# Altium schematic symbol library Inductor.SchLib: 14 symbols
Pins are listed as number, name and electrical type; pins without a type are passive.

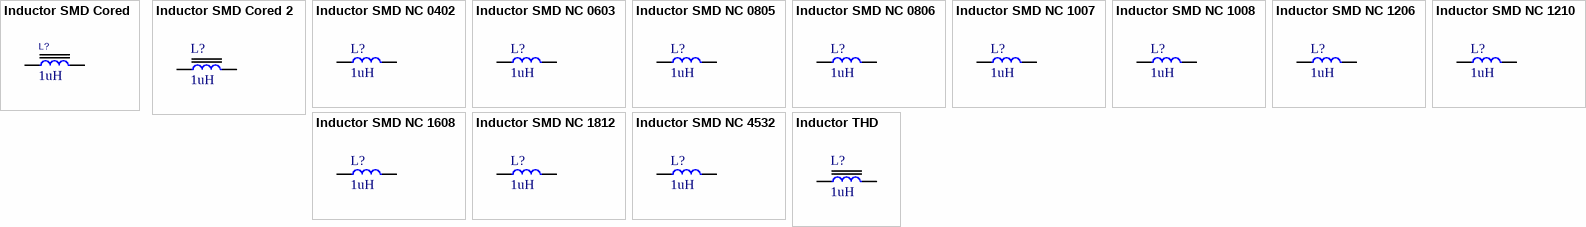
[diagram p0: symbols Inductor SMD Cored to Inductor THD]

## Inductor SMD Cored
designator L?  value 1uH
Inductor SMD Cored; DatasheetVersion: 2022
footprint CD32 indctor
footprint LM57 (5*5 to 7*7)
footprint LM810 (8*8 to 10*10)
footprint L3 (3.0*3.2mm)
footprint L4 (3.8*3.8mm, 3.7*3.5mm)
footprint L4-H2 (4.1*4.1*2.1mm)
footprint L5 (5.0*5.0mm)
footprint L5-H2 (5.0*5.0*2mm)
footprint L6 (6.0*6.0mm)
footprint L7 (7.2*6.9mm, 7.1*6.5mm)
footprint L7-5 (6.6*4.4*3mm)
footprint L7-6 (7.5*6.5*3mm)
footprint L8 (7.5*7.5mm, 8*8)
footprint L9-8 (9*7.7*1.6mm)
footprint L10 (10.5*11.5mm)
footprint L11-7 (7.5*10.8*7.2mm)
footprint L12 (13.5*12.5mm)
footprint L13-10 (13*9.5mm, 12.7*10mm)
footprint L18-15 (18.5*15.24mm)
footprint LCDRH2 (3.2*3.2*2.0mm)
footprint LCDRH5 (6*6*2mm)
footprint self 6.8uh 0.5A
pins: 1, 2

## Inductor SMD Cored 2
designator L?  value 1uH
Inductor SMD Cored 2; DatasheetVersion: 2022
footprint LXAL1010 (10.50*11.3*10mm)
footprint LXAL1030 (10.50*11.3*3.1mm)
footprint LXAL1060 (10.50*11.3*6.0mm)
footprint LXAL1350 (13*14*5mm)
footprint LXAL1510 (15.2*16.2*11mm)
footprint LXAL1513 (15.2*16.2*13mm)
footprint LXAL1580 (15.2*16.2*8.2mm)
footprint LXAL4014 (4.0*4.0*1.4mm)
footprint LXAL4020 (4.0*4.0*2.1mm)
footprint LXAL4030 (4.0*4.0*3.1mm)
footprint LXAL4040 (4.0*4.0*4.1mm)
footprint LXAL5020 (5.3*5.5*2.0mm)
footprint LXAL5030 (5.3*5.5*3.1mm)
footprint LXAL5050 (5.3*5.5*5.1mm)
footprint LXAL6020 (6.36*6.56*2.1mm)
footprint LXAL6030 (6.36*6.56*3.1mm)
footprint LXAL6060 (6.36*6.56*6.1mm)
footprint LXAL7020 (7.5*7.5*2.1mm)
footprint LXAL7030 (7.5*7.5*3.1mm)
footprint LXAL7070 (7.5x7.5x7.0mm)
footprint LXAL8080 (8.1x8.6x8mm)
pins: 1, 2

## Inductor SMD NC 0402
designator L?  value 1uH
Inductor SMD NC 0402; DatasheetVersion: 2022
footprint L0402 (0402, 1.0*0.5mm)
footprint L0402E (0402, 1.0*0.5mm)
pins: 1, 2

## Inductor SMD NC 0603
designator L?  value 1uH
Inductor SMD NC 0603; DatasheetVersion: 2022
footprint L0603 (0603, 1.6*0.8mm)
footprint L0603E (0603, 1.6*0.8mm)
pins: 1, 2

## Inductor SMD NC 0805
designator L?  value 1uH
Inductor SMD NC 0805; DatasheetVersion: 2022
footprint L0805 (0805, 2.0*1.3mm)
footprint L0805E (0805)
pins: 1, 2

## Inductor SMD NC 0806
designator L?  value 1uH
Inductor SMD NC 0806; DatasheetVersion: 2022
footprint L0806 (0805, 2.0*1.6mm)
pins: 1, 2

## Inductor SMD NC 1007
designator L?  value 1uH
Inductor SMD NC 1007; DatasheetVersion: 2022
footprint L1007 (2518, 2.5*1.8mm)
pins: 1, 2

## Inductor SMD NC 1008
designator L?  value 1uH
Inductor SMD NC 1008; DatasheetVersion: 2022
footprint L1008 (2520, 2.5*2.0mm)
pins: 1, 2

## Inductor SMD NC 1206
designator L?  value 1uH
Inductor SMD NC 1206; DatasheetVersion: 2022
footprint L1206 (1206, 3.2*1.6mm)
footprint L1206E (1206)
pins: 1, 2

## Inductor SMD NC 1210
designator L?  value 1uH
Inductor SMD NC 1210; DatasheetVersion: 2022
footprint L1210 (1210, 3.2*2.5mm)
pins: 1, 2

## Inductor SMD NC 1608
designator L?  value 1uH
Inductor SMD NC 1608; DatasheetVersion: 2022
footprint L1608 (1608, 1.6*0.8mm)
pins: 1, 2

## Inductor SMD NC 1812
designator L?  value 1uH
Inductor SMD NC 1812; DatasheetVersion: 2022
footprint L1812 (1812, 4.5*3.2mm)
pins: 1, 2

## Inductor SMD NC 4532
designator L?  value 1uH
Inductor SMD NC 4532; DatasheetVersion: 2022
footprint L4532 (4532, 4.5*3.2mm)
pins: 1, 2

## Inductor THD
designator L?  value 1uH
Inductor THD; DatasheetVersion: 2022
footprint LTOR15X6 (15.0*6.0mm)
footprint LTOR25X10 (25.0*10.0mm)
footprint LTC10 (10mm)
footprint LTC7 (7.5mm)
footprint LTC6 (6mm)
footprint LTAX025 (Axial, 6.4mm)
footprint LTAX04 (Axial, 9.8mm)
footprint LTOR15X6B (15.0*6.0mm)
footprint LTOR25X10B (25.0*10.0mm)
pins: 1, 2